# EAGLE library part MCP41HV51-103E_ST (library MCP41HV51-103E_ST)
MCP41HV51-103E/ST, Digital Potentiometer 10k 256-Position Serial-SPI 14-Pin TSSOP Source: Datasheet <https://componentsearchengine.com/Datasheets/2/MCP41HV51-103E_ST.pdf>
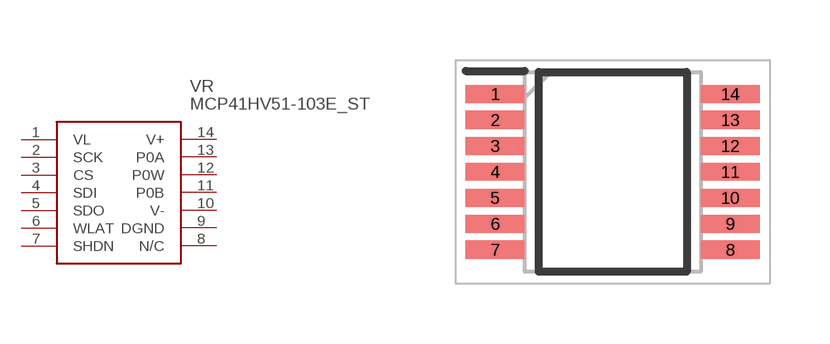
[diagram p0: symbol with the pads of SOP65P640X120-14N; footprint SOP65P640X120-14N]

Designator prefix VR

## MCP41HV51-103E_ST (Description: MCP41HV51-103E/ST, Digital Potentiometer 10k 256-Position Serial-SPI 14-Pin TSSOP; Height: 1.2mm; Manufacturer_Name: Microchip; Manufacturer_Part_Number: MCP41HV51-103E/ST; Mouser_Part_Number: 579-MCP41HV51-103EST; Mouser_Price-Stock: https://www.mouser.co.uk/ProductDetail/Microchip-Technology/MCP41HV51-103E-ST?qs=zOnbk8%2FsRx46P8R1xF6YQA%3D%3D)  [SOP65P640X120-14N]
1  VL  pwr
2  SCK  in
3  CS  in
4  SDI  in
5  SDO  out
6  WLAT
7  SHDN  in
8  N/C  nc
9  DGND  pwr
10  V-  pwr
11  P0B  pwr
12  P0W  out
13  P0A  pwr
14  V+  pwr

## Footprint SOP65P640X120-14N (pad centres in mm)
TSSOP
smd 1.475 x 0.45: 1 -2.938,1.95; 2 -2.938,1.3; 3 -2.938,0.65; 4 -2.938,0; 5 -2.938,-0.65; 6 -2.938,-1.3; 7 -2.938,-1.95; 8 2.938,-1.95; 9 2.938,-1.3; 10 2.938,-0.65; 11 2.938,0; 12 2.938,0.65; 13 2.938,1.3; 14 2.938,1.95